# Altium schematic symbol library Display.SchLib: 2 symbols
Pins are listed as number, name and electrical type; pins without a type are passive.

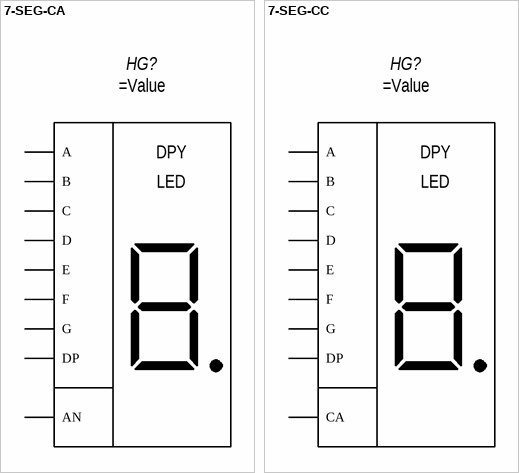
[diagram p0: symbols 7-SEG-CA to 7-SEG-CC]

## 7-SEG-CA
designator HG?  (value not drawn)
Single Digit Numeric Display 57mm (2.3INCH), Common Anode; Manufacturer: *; HelpURL: *; Value: =Value
footprint SX10-21 (7-Segment Display, 25.4mm (1 inch)); pin to pad A>7 AN>8 B>6 C>4 D>2 DP>5 E>1 F>9 G>10
footprint SX15-11 (7-Segment Display, 38.1mm (1.5 inch)); pin to pad A>7 AN>1 B>6 C>4 D>3 DP>8 E>2 F>9 G>10
footprint SX23-11 (7-Segment Display, 57mm (2.3 inch)); pin to pad A>7 AN>1 B>6 C>4 D>3 DP>8 E>2 F>9 G>10
pins: A, AN, B, C, D, DP, E, F, G
text: DPY; LED

## 7-SEG-CC
designator HG?  (value not drawn)
Single Digit Numeric Display 57mm (2.3INCH), Common Anode; Manufacturer: *; HelpURL: *; Value: =Value
footprint SX10-21 (7-Segment Display, 25.4mm (1 inch)); pin to pad A>7 B>6 C>4 CA>3 D>2 DP>5 E>1 F>9 G>10
footprint SX15-11 (7-Segment Display, 38.1mm (1.5 inch)); pin to pad A>7 B>6 C>4 CA>1 D>3 DP>8 E>2 F>9 G>10
footprint SX23-11 (7-Segment Display, 57mm (2.3 inch)); pin to pad A>7 B>6 C>4 CA>1 D>3 DP>8 E>2 F>9 G>10
pins: A, B, C, CA, D, DP, E, F, G
text: DPY; LED